# Altium schematic symbol library AUSB.SchLib: 66 symbols (part 2 of 2)
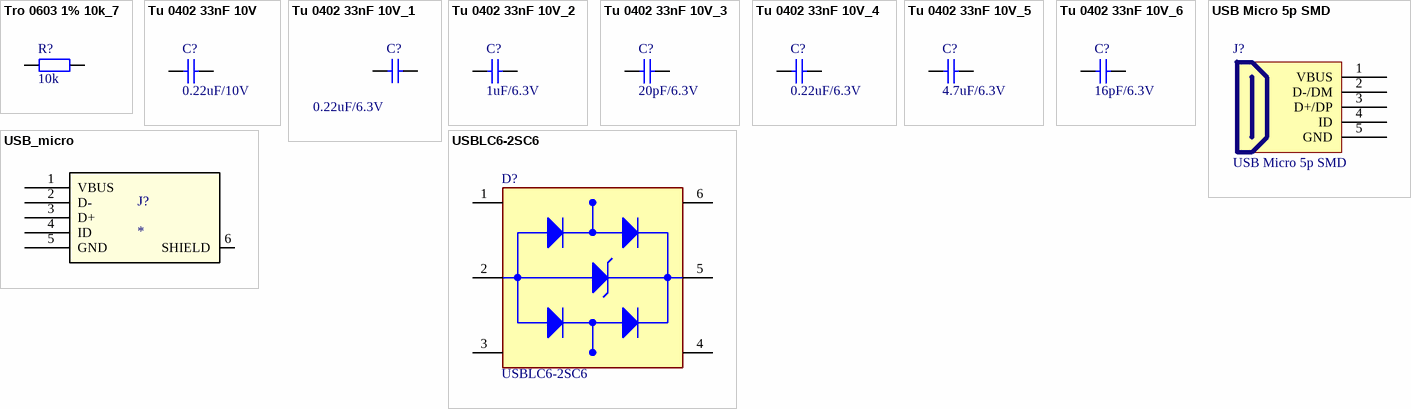
[diagram p5: symbols Tro 0603 1% 10k_7 to USBLC6-2SC6]

## USBLC6-2SC6
designator D?
17V Clamp 5A (8/20Âµs) Ipp Tvs Diode Surface Mount SOT-23-6; MF: STMicroelectronics; Value: *; SnapEDA_Link: https://www.snapeda.com/parts/USBLC6-2SC6/STMicroelectronics/view-part/?ref=snap; Check_prices: https://www.snapeda.com/parts/USBLC6-2SC6/STMicroelectronics/view-part/?ref=eda; Purchase-URL: https://pricing.snapeda.com/search/part/USBLC6-2SC6/?ref=eda; Price: None; Availability: In Stock; Package: SOT-23-6 STMicroelectronics; MP: USBLC6-2SC6
footprint SOT95P280X145-6N
pins: 1 I/O1_IN, 2 GND (power), 3 I/O2_IN, 4 I/O2_OUT, 5 VBUS (power), 6 I/O1_OUT